# Altium integrated library Analog Devices Data Converters Analog-to-Digital Converters.IntLib: 2404 symbols (part 51 of 346)
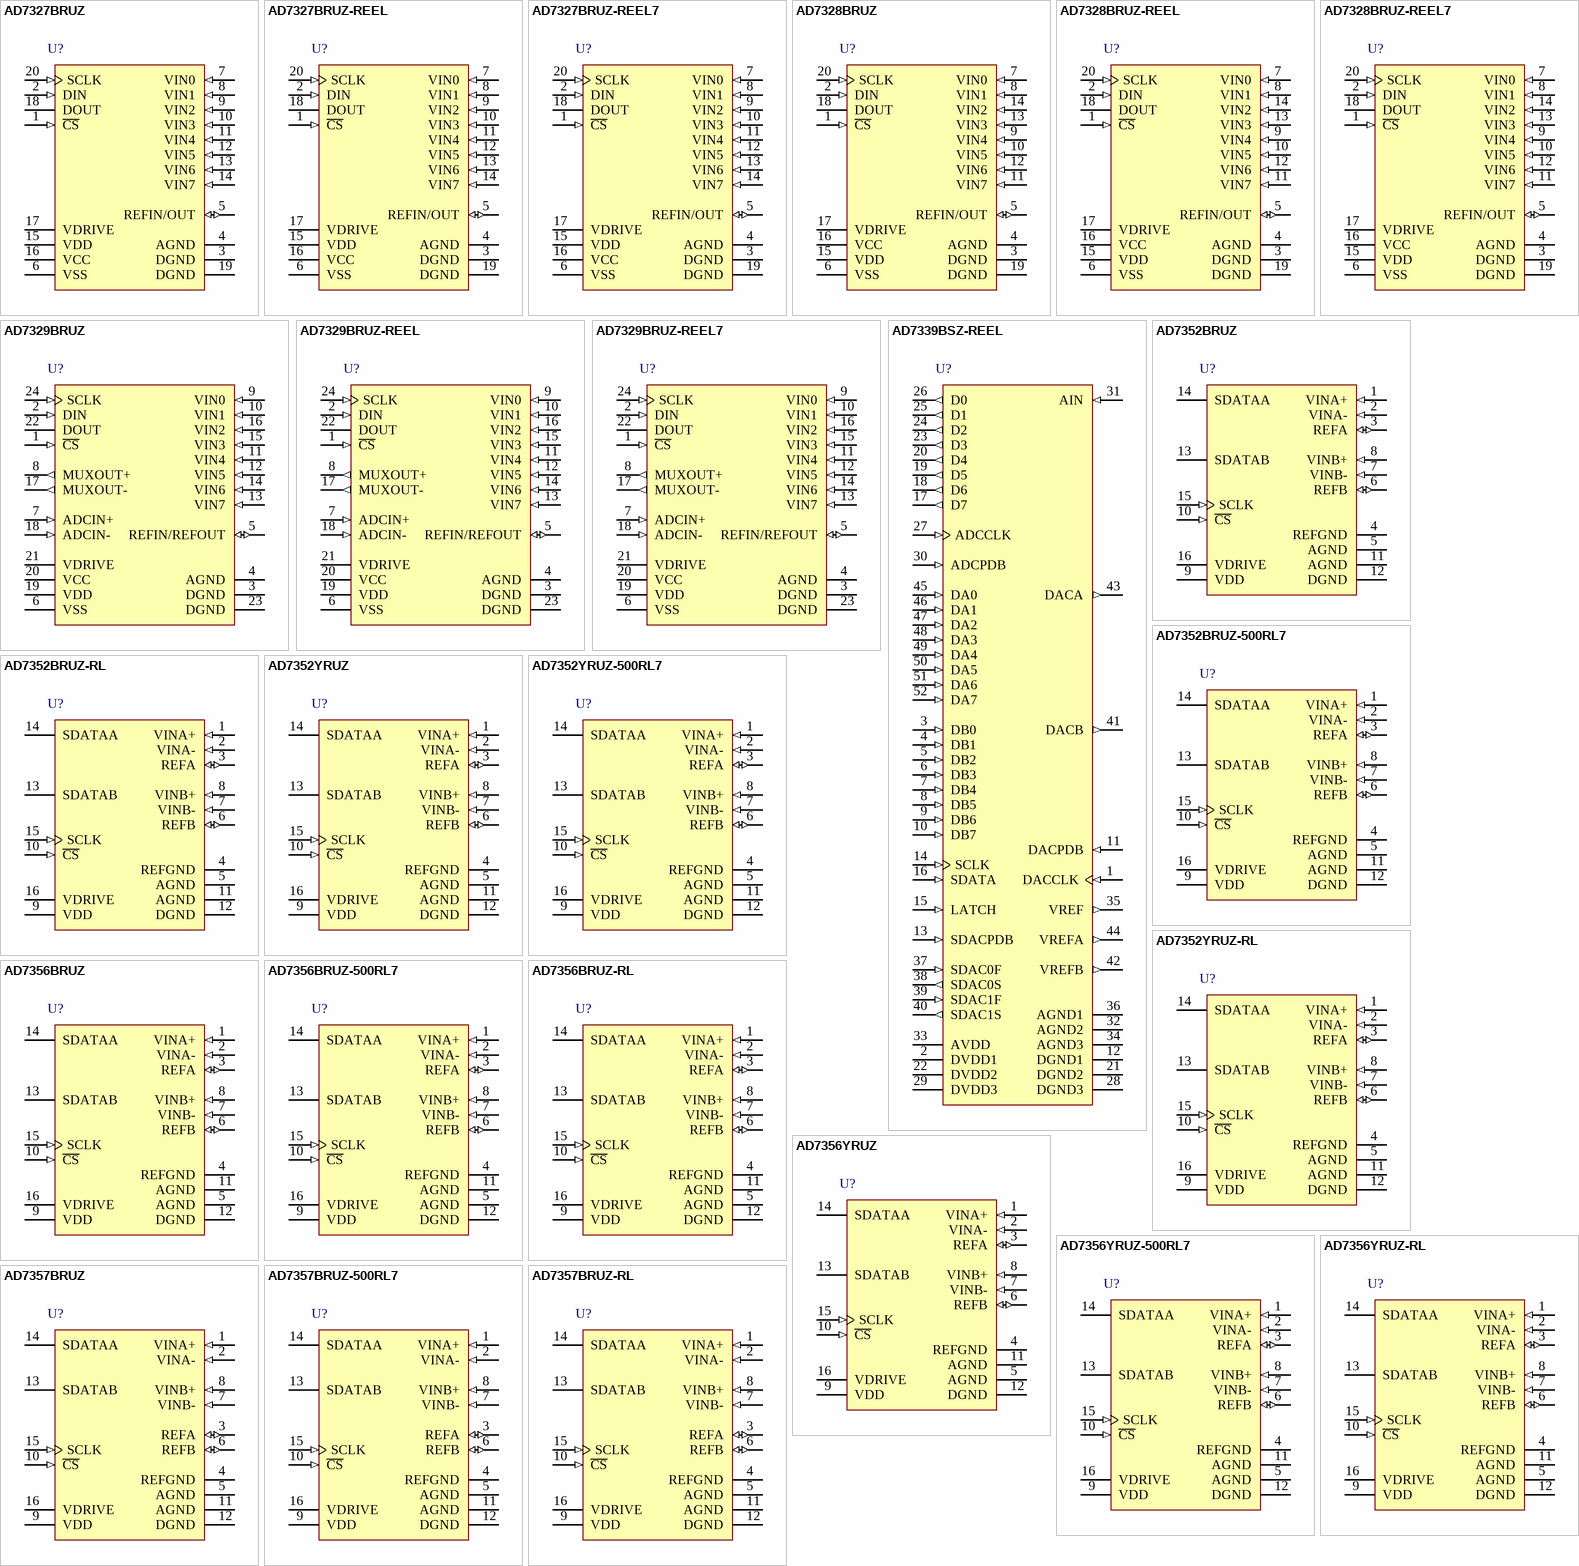
[diagram p283: symbols AD7327BRUZ to AD7357BRUZ-RL]

## AD7329BRUZ-REEL7
designator U?
Octal 13-Bit True Bipolar Input Plus Sign Analog-to-Digital Converter with Serial, SPI Interface, Software-Selectable, 1MSPS, -40 to +85 degC, RU-24, Pb-Free, Reel; Generic Part Number: AD7329; Manufacturer: Analog Devices; PartNumber: AD7329BRUZ-REEL7; Resolution (Bits): 13; Channels: 8; Throughput Rate (SPS): 1M; Interface: Ser, SPI; DatasheetVersion: Rev.A; PackageVersion: 2002; PackageReference: RU-24; PackageDescription: 24-Lead Thin Shrink Small Outline Package [TSSOP]; Supplier 1: Digi-Key; Supplier Part Number 1: AD7329BRUZ-REEL7-ND; Supplier 2: Mouser; Supplier Part Number 2: 584-AD7329BRUZ-R7; RoHS: Y; Packing: Reel; Mounting Technology: Surface Mount; Code_JEDEC: MO-153-AD; ComponentLink1Description: Manufacturer URL; ComponentLink1URL: http://www.analog.com/en/index.html; ComponentLink2Description: Datasheet; ComponentLink2URL: http://www.analog.com/static/imported-files/data_sheets/AD7329.pdf; ComponentLink3Description: Package Specification; ComponentLink3URL: http://www.analog.com/static/imported-files/packages/380523655245964505593671154107510036154RU24.pdf; ComponentLink4Description: Product URL; ComponentLink4URL: http://www.analog.com/en/analog-to-digital-converters/ad-converters/ad7329/products/product.html
footprint RU-24_N (TSOP, 24-Leads, Body 7.8x4.4mm, Pitch 0.65mm, IPC Medium Density)
footprint RU-24_L (TSOP, 24-Leads, Body 7.8x4.4mm, Pitch 0.65mm, IPC High Density)
footprint RU-24_M (TSOP, 24-Leads, Body 7.8x4.4mm, Pitch 0.65mm, IPC Low Density)
pins: 1 ~{CS} (in) "Chip Select. Active low logic input. This input provides the dual function of initiating conversions on the AD7329 and frames the serial data transfer.", 2 DIN (in) "Data In. Data to be written to the on-chip registers is provided on this input and is clocked into the register on the falling edge of SCLK (see the Registers section).", 3 DGND (power) "Digital Ground. Ground reference point for all digital circuitry on the AD7329. The DGND and AGND voltages should ideally be at the same potential and must not be more than 0.3 V apart, even on a transient basis.", 4 AGND (power) "Analog Ground. Ground reference point for all analog circuitry on the AD7329. All analog input signals and any external reference signal should be referred to this AGND voltage. The AGND and DGND voltages should ideally be (See Datasheet)", 5 REFIN/REFOUT (io) "Reference Input/Reference Output. The on-chip reference is available on this pin for use external to the AD7329. The nominal internal reference voltage is 2.5 V, which appears at the pin. A 680 nF capacitor should be placed (See Datasheet)", 6 VSS (power) "Negative Power Supply Voltage. This is the negative supply voltage for the analog input section.", 7 ADCIN+ (in) "Positive ADC Input. This pin allows access to the on-chip track-and-hold. The voltage applied to this pin is still a high voltage signal (+/-10 V, +/-5 V, +/-2.5 V, or 0 V to +10 V).", 8 MUXOUT+ (out) "Positive Multiplexer Output. The output of the multiplexer appears at this pin. The voltage at this pin is still a high voltage signal equivalent to the voltage applied to the VIN+ input channel, as selected in the control (See Datasheet)", 9 VIN0 (in) "Analog Input 0. The analog inputs are multiplexed into the on-chip track-and-hold. The analog input channel for conversion is selected by programming the channel address bits, ADD2 through ADD0, in the control register. The (See Datasheet)", 10 VIN1 (in) "Analog Input 1. The analog inputs are multiplexed into the on-chip track-and-hold. The analog input channel for conversion is selected by programming the channel address bits, ADD2 through ADD0, in the control register. The (See Datasheet)", 11 VIN4 (in) "Analog Input 4. The analog inputs are multiplexed into the on-chip track-and-hold. The analog input channel for conversion is selected by programming the channel address bits, ADD2 through ADD0, in the control register. The (See Datasheet)", 12 VIN5 (in) "Analog Input 5. The analog inputs are multiplexed into the on-chip track-and-hold. The analog input channel for conversion is selected by programming the channel address bits, ADD2 through ADD0, in the control register. The (See Datasheet)", 13 VIN7 (in) "Analog Input 7. The analog inputs are multiplexed into the on-chip track-and-hold. The analog input channel for conversion is selected by programming the channel address bits, ADD2 through ADD0, in the control register. The (See Datasheet)", 14 VIN6 (in) "Analog Input 6. The analog inputs are multiplexed into the on-chip track-and-hold. The analog input channel for conversion is selected by programming the channel address bits, ADD2 through ADD0, in the control register. The (See Datasheet)", 15 VIN3 (in) "Analog Input 3. The analog inputs are multiplexed into the on-chip track-and-hold. The analog input channel for conversion is selected by programming the channel address bits, ADD2 through ADD0, in the control register. The (See Datasheet)", 16 VIN2 (in) "Analog Input 2. The analog inputs are multiplexed into the on-chip track-and-hold. The analog input channel for conversion is selected by programming the channel address bits, ADD2 through ADD0, in the control register. The (See Datasheet)", 17 MUXOUT- (out) "Negative Multiplexer Output. This pin allows access to the on-chip track-and-hold. The voltage applied to this pin is still a high voltage signal when the AD7329 is in differential mode. When the AD7329 is in single-ended (See Datasheet)", 18 ADCIN- (in) "Negative ADC Input. This pin allows access to the track-and-hold. When the AD7329 is in single-ended mode, this pin can be tied to MUXOUT-, which is connected to AGND. When the AD7329 is in pseudo differential mode, this pin (See Datasheet)", 19 VDD (power) "Positive Power Supply Voltage. This is the positive supply voltage for the analog input section.", 20 VCC (power) "Analog Supply Voltage, 2.7 V to 5.25 V. This is the supply voltage for the ADC core on the AD7329. This supply should be decoupled to AGND.", 21 VDRIVE (power) "Logic Power Supply Input. The voltage supplied at this pin determines at what voltage the interface operates. This pin should be decoupled to DGND. The voltage at this pin can be different than that at VCC but should not (See Datasheet)", 22 DOUT (hiz) "Serial Data Output. The conversion output data is supplied to this pin as a serial data stream. The bits are clocked out on the falling edge of the SCLK input, and 16 SCLKs are required to access the data. The data stream (See Datasheet)", 23 DGND (power) "Digital Ground. Ground reference point for all digital circuitry on the AD7329. The DGND and AGND voltages should ideally be at the same potential and must not be more than 0.3 V apart, even on a transient basis.", 24 SCLK (in) "Serial Clock, Logic Input. A serial clock input provides the SCLK used for accessing the data from the AD7329. This clock is also used as the clock source for the conversion process."